# Altium footprint library SOIC16P127_1030X1032X265L75X42N.PcbLib: 1 footprints
Each footprint in its own frame and in the unit in brackets; x right, y up, seen from the top. Pads: shape width x height; smd on the part's side, far side on the other; paste and mask are expansions set on the pad; w line width, h text height; cw(c..) or ccw(c..) is an arc to the next point about the centre after c.
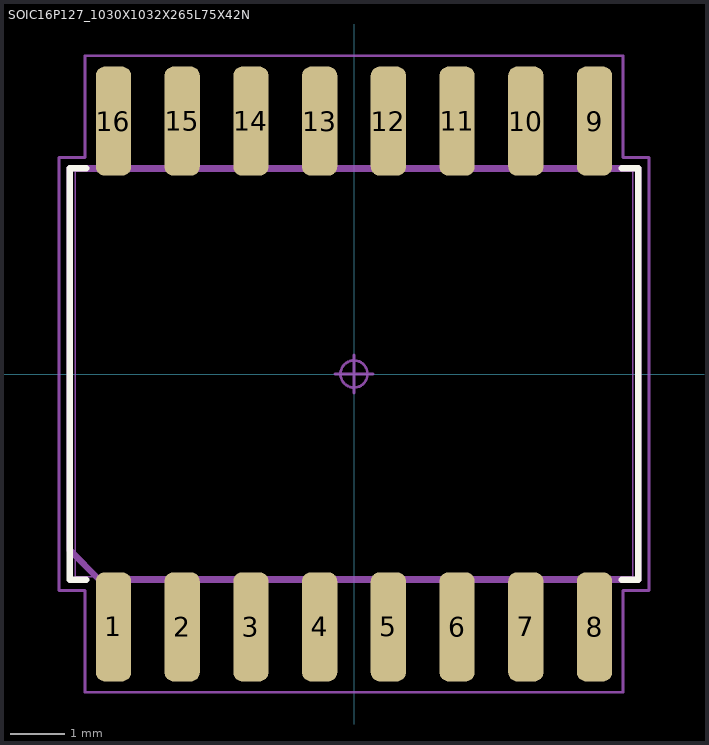
[diagram p0: the footprint, top view; thin cyan lines are the x and y axes]

## SOIC16P127_1030X1032X265L75X42N [mil] "Small Outline IC (SOIC), 1.27 mm pitch; 16 pin, 10.30 mm L X 7.50 mm W X 2.65 mm H body"
height 104.33
pads (16):
  rrect50% 25.63x79.37 smd: 1(-175,-183.94) 2(-125,-183.94) 3(-75,-183.94) 4(-25,-183.94) 5(25,-183.94) 6(75,-183.94) 7(125,-183.94) 8(175,-183.94) 9(175,183.94) 10(125,183.94) 11(75,183.94) 12(25,183.94) 13(-25,183.94) 14(-75,183.94) 15(-125,183.94) 16(-175,183.94)
Top Overlay:
  lines w4.72: -194.88,-149.61 -206.69,-149.61 -206.69,149.61 -194.88,149.61 ; 194.88,-149.61 206.69,-149.61 206.69,149.61 194.88,149.61
Mechanical 3:
  lines w4.72: -206.69,-128.31 -206.69,149.61 206.69,149.61 206.69,-149.61 -185.39,-149.61 -206.69,-128.31
Mechanical 5:
  lines w0.98: -202.76,-147.64 202.76,-147.64 202.76,147.64 -202.76,147.64 -202.76,-147.64 ; -183.37,-203.27 -183.37,-173.74 -166.63,-173.74 -166.63,-203.27 -183.37,-203.27 ; -183.37,173.74 -183.37,203.27 -166.63,203.27 -166.63,173.74 -183.37,173.74 ; -133.37,-203.27 -133.37,-173.74 -116.63,-173.74 -116.63,-203.27 -133.37,-203.27 ; -133.37,173.74 -133.37,203.27 -116.63,203.27 -116.63,173.74 -133.37,173.74 ; -83.37,-203.27 -83.37,-173.74 -66.63,-173.74 -66.63,-203.27 -83.37,-203.27 ; -83.37,173.74 -83.37,203.27 -66.63,203.27 -66.63,173.74 -83.37,173.74 ; -33.37,-203.27 -33.37,-173.74 -16.63,-173.74 -16.63,-203.27 -33.37,-203.27 ; -33.37,173.74 -33.37,203.27 -16.63,203.27 -16.63,173.74 -33.37,173.74 ; 16.63,-203.27 16.63,-173.74 33.37,-173.74 33.37,-203.27 16.63,-203.27 ; 16.63,173.74 16.63,203.27 33.37,203.27 33.37,173.74 16.63,173.74 ; 66.63,-203.27 66.63,-173.74 83.37,-173.74 83.37,-203.27 66.63,-203.27 ; 66.63,173.74 66.63,203.27 83.37,203.27 83.37,173.74 66.63,173.74 ; 116.63,-203.27 116.63,-173.74 133.37,-173.74 133.37,-203.27 116.63,-203.27 ; 116.63,173.74 116.63,203.27 133.37,203.27 133.37,173.74 116.63,173.74 ; 166.63,-203.27 166.63,-173.74 183.37,-173.74 183.37,-203.27 166.63,-203.27 ; 166.63,173.74 166.63,203.27 183.37,203.27 183.37,173.74 166.63,173.74
Mechanical 7:
  circle w1.97: c0,0 r9.84
  lines w1.97: -13.78,0 13.78,0 ; 0,-13.78 0,13.78 ; -214.57,-157.48 -195.67,-157.48 -195.67,-231.5 195.67,-231.5 195.67,-157.48 214.57,-157.48 214.57,157.48 195.67,157.48 195.67,231.5 -195.67,231.5 -195.67,157.48 -214.57,157.48 -214.57,-157.48
Mechanical 9:
  text ".Designator" at -170,9.99 h60
3D body "SOIC16P127_1030X1032X265L75X42.STEP": height 104.33, standoff 0, extent -202.76,-203.25 202.76,203.25
3D body "SOIC16P127_1030X1032X265L75X42.STEP": height 104.33, standoff 0, extent -202.76,-203.25 202.76,203.25
3D body: height 104.33, standoff 0, extent -214.57,-231.5 214.57,231.5